# Altium schematic symbol library 1G27.Schlib: 1 symbol
Pins are listed as number, name and electrical type; pins without a type are passive.

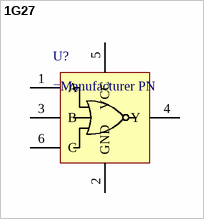
[diagram p0: symbol 1G27]

## 1G27
designator U?
Single 3-Input NOR Gate
pins: 1 A, 2 GND, 3 B, 4 Y, 5 VCC, 6 C